# Altium schematic symbol library INA181A3IDBVR.Schlib: 1 symbol
Pins are listed as number, name and electrical type; pins without a type are passive.

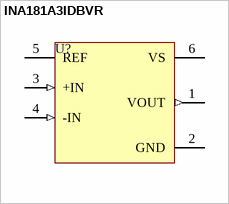
[diagram p0: symbol INA181A3IDBVR]

## INA181A3IDBVR
designator U?
Low- and High-Side Voltage Output, Current-Sense Amplifiers
pins: 1 VOUT (out), 2 GND (power), 3 +IN (in), 4 -IN (in), 5 REF, 6 VS (power)